# Altium integrated library Linear Technology Power Management Battery Management.IntLib: 626 symbols (part 48 of 56)
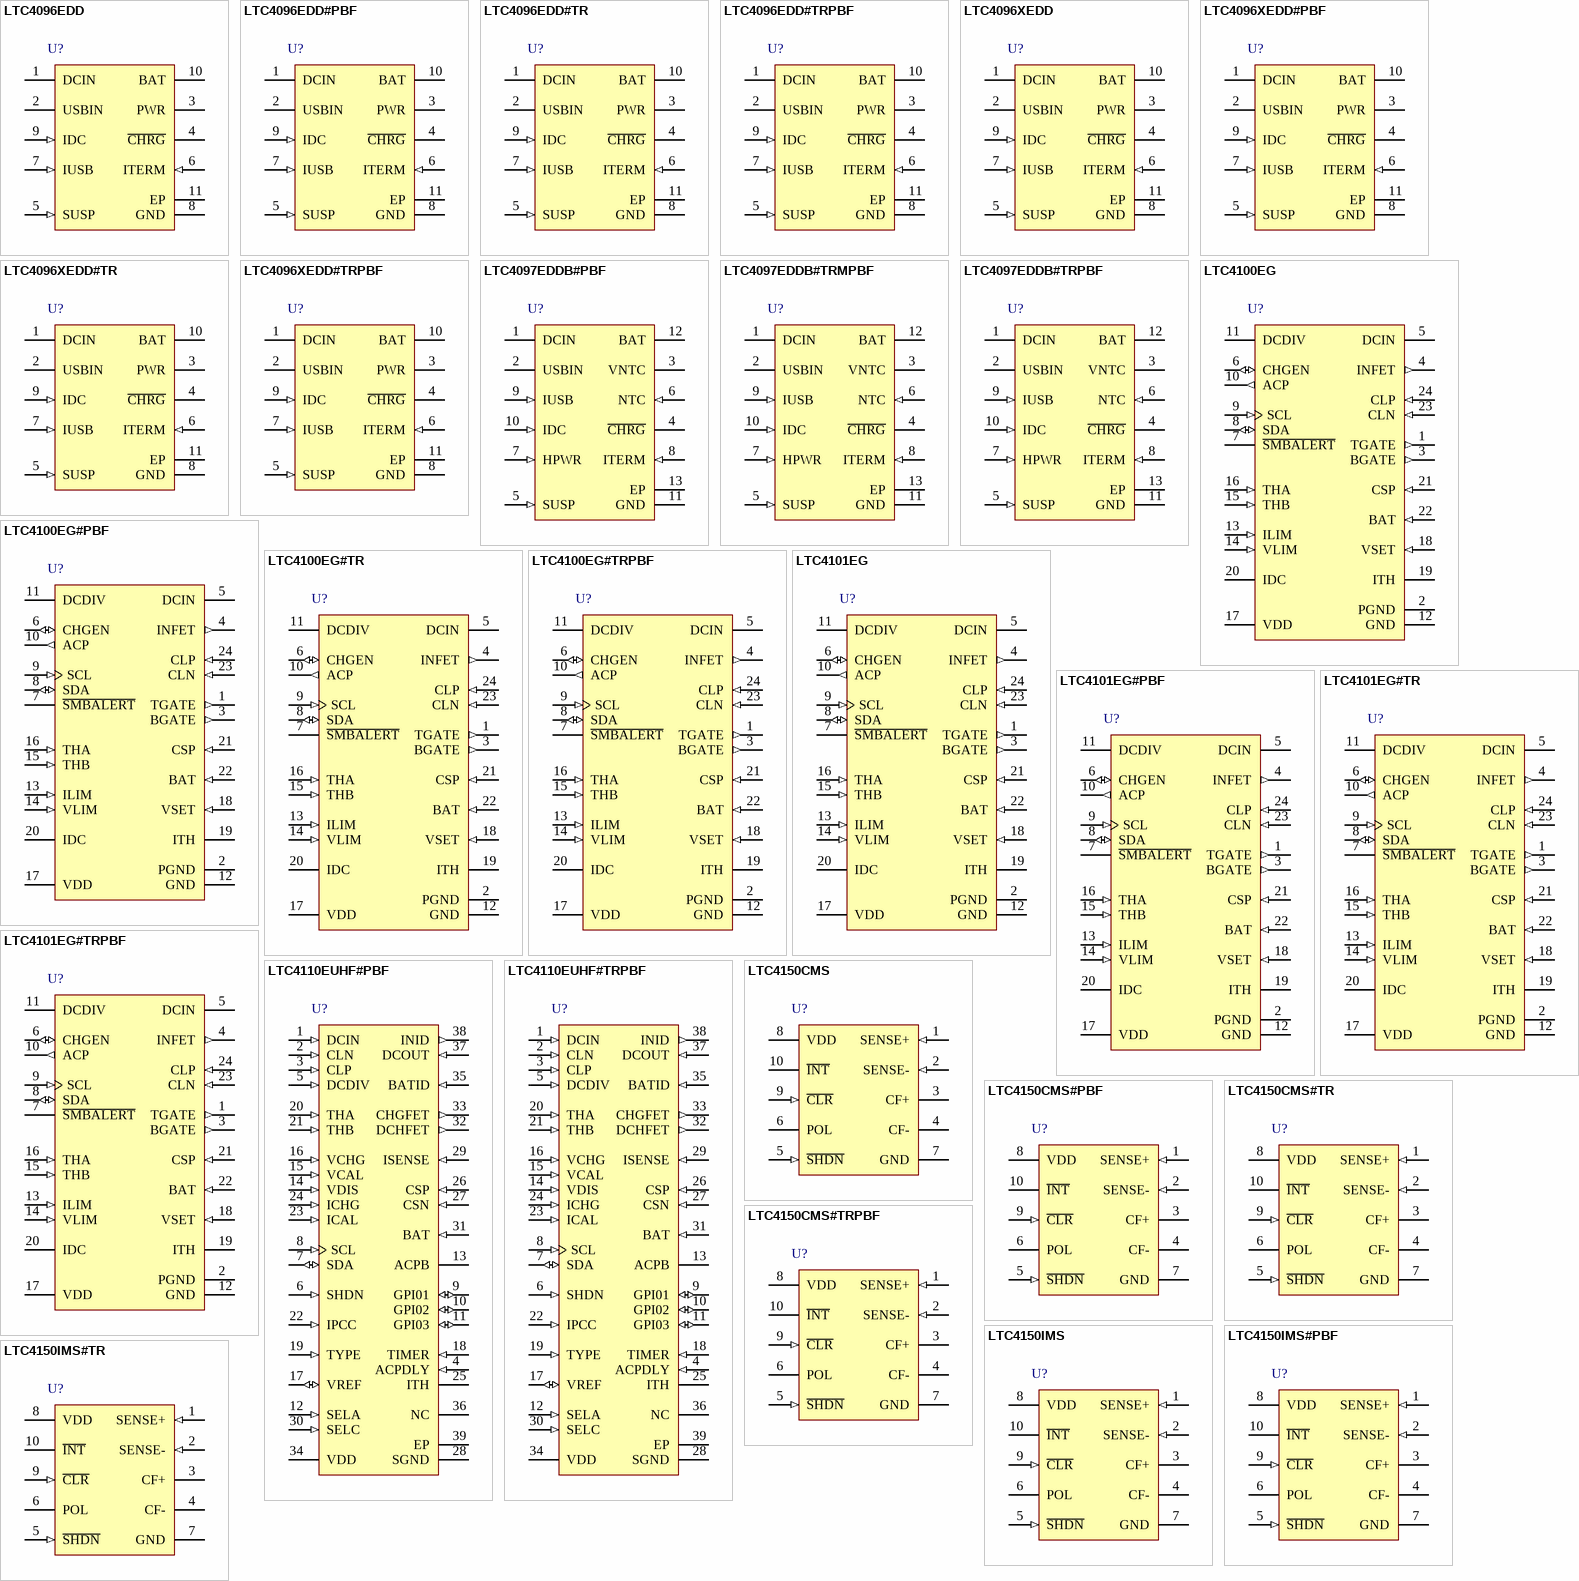
[diagram p69: symbols LTC4096EDD to LTC4150IMS#TR]

## LTC4100EG
designator U?
Smart Battery Charger Controller, 6 to 28 V Vin, 24-pin SOP (G-24), -40 to 85 degC; Manufacturer: Linear Technology; PartNumber: LTC4100EG; Battery Chemistry: Li-Ion, Li-Polymer, NiCd, NiMH; Charge Termination: On-board timer, Microcontroller; Float Voltage: Adj; Max Charge Current(A): 4; Number of Cells: 2 to 6 (Li); Type of Charger: Switching, SMBus; Vin Max(V): 28; Vin Min(V): 6; DatasheetVersion: Rev. B; PackageVersion: Jun-10; PackageReference: G-24; PackageDescription: 24-Pin Plastic SSOP, Body 8.2 x 5.3 mm, Pitch 0.65 mm; Supplier 1: Digi-Key; Supplier Part Number 1: LTC4100EG-ND; Supplier 2: Newark; Supplier Part Number 2: 58M0959; RoHS: FALSE; Mounting Technology: Surface Mount; ComponentLink1Description: Manufacturer URL; ComponentLink1URL: http://www.linear.com/; ComponentLink2Description: Datasheet; ComponentLink2URL: http://cds.linear.com/docs/en/datasheet/4100fb.pdf; ComponentLink3Description: Package Specification; ComponentLink3URL: http://cds.linear.com/docs/en/packaging/SSOP_24_05-08-1640.pdf
footprint LT-G-24_N (SOP, 24-Leads, Body 8.5x5.6mm, Pitch 0.65mm, IPC Medium Density)
footprint LT-G-24_L (SOP, 24-Leads, Body 8.5x5.6mm, Pitch 0.65mm, IPC High Density)
footprint LT-G-24_M (SOP, 24-Leads, Body 8.5x5.6mm, Pitch 0.65mm, IPC Low Density)
pins: 1 TGATE (out) "Drives the Top External P-MOSFET of the Battery Charger Buck Converter.", 2 PGND (power) "High Current Ground Return for BGATE Driver", 3 BGATE (out) "Drives the Bottom External N-MOSFET of the Battery Charger Buck Converter.", 4 INFET (out) "Drives the Gate of the External Input P-MOSFET.", 5 DCIN (power) "External DC Power Source Input. Bypass to ground with a 0.1uF capacitor.", 6 CHGEN (io) "Digital Bidirectional Pin to Enable Charger Function. This pin is connected as a wired AND bus.", 7 ~{SMBALERT} (oc) "Active Low Interrupt Output to Host (referred to as the S\M\B\A\L\E\R\T\ signal in the SMBus Revision 1.1 specification). Signals host that there has been a change of status in the charger registers and that the host should (See Datasheet)", 8 SDA (io) "SMBus Data Signal from Main (host-controlled)SMBus. External pull-up resistor is required.", 9 SCL (in) "SMBus Clock Signal from Main (host-controlled) SMBus. External pull-up resistor is required.", 10 ACP (out) "This Output Indicates the Value of the DCDIV Comparator. It can be used to indicate whether AC is present or not.", 11 DCDIV (power) "Supply Divider Input. This is a high impedance comparator input with a 1.2V threshold (rising edge) and hysteresis.", 12 GND (power) "Ground for Digital and Analog Circuitry.", 13 ILIM (in) "An external resistor is connected between this pin and GND. The value of the external resistor programs the range and resolution of the programmed charger current. This is a digital, not an analog, function", 14 VLIM (in) "An external resistor is connected between this pin and GND. The value of the external resistor programs the range and resolution of the charging voltage. This is a digital, not an analog, function.", 15 THB (in) "SafetySignal Force/Sense Pin to Smart Battery. See description of operation for more detail. The maximum allowed combined capacitance on THA, THB and SafetySignal is 1nF (see Figure 4). A series resistor 54.9k needs to be (See Datasheet)", 16 THA (in) "SafetySignal Force/Sense Pin to Smart Battery. See description of operation for more detail. The maximum allowed combined capacitance on THA, THB and SafetySignal is 1nF (see Figure 4). A series resistor 1130ohm needs to be (See Datasheet)", 17 VDD (power) "Power Supply Input for the LTC4101 Digital Circuitry. Bypass this pin with 0.1uF. Typically between 3.3V and 5VDC.", 18 VSET (in) "Tap Point of the Programmable Resistor Divider, which Provides Battery Voltage Feedback to the Charger.", 19 ITH "Control Signal of the Inner Loop of the Current Mode PWM. Higher ITH corresponds to higher charging current in normal operation. A 0.0015uF capacitor to GND filters out PWM ripple. Typical full-scale output current is 40uA. (See Datasheet)", 20 IDC "Bypass to GND with a 0.068uF Capacitor", 21 CSP (in) "Current Amplifier CA1 Input. This pin and the BAT pin measure the voltage across the sense resistor, RSENSE, to provide the instantaneous current signals required for both peak and average current mode operation.", 22 BAT (in) "Battery Sense Input and the Negative Reference for the Current Sense Resistor. A bypass capacitor of at least 10uF is required.", 23 CLN (in) "Negative Input to the Input Current Limiting Circuit Block. If no current limit function is desired, connect this pin to CLP. The threshold is set at 100mV below the voltage at the CLP pin. When used to limit supply current, (See Datasheet)", 24 CLP (in) "Positive Input to the Input Current Limiting Circuit Block. This pin also serves as a power supply for the IC"

## LTC4100EG#PBF
designator U?
Smart Battery Charger Controller, 6 to 28 V Vin, 24-pin SOP (G-24), -40 to 85 degC, Pb-Free; Manufacturer: Linear Technology; PartNumber: LTC4100EG#PBF; Battery Chemistry: Li-Ion, Li-Polymer, NiCd, NiMH; Charge Termination: On-board timer, Microcontroller; Float Voltage: Adj; Max Charge Current(A): 4; Number of Cells: 2 to 6 (Li); Type of Charger: Switching, SMBus; Vin Max(V): 28; Vin Min(V): 6; DatasheetVersion: Rev. B; PackageVersion: Jun-10; PackageReference: G-24; PackageDescription: 24-Pin Plastic SSOP, Body 8.2 x 5.3 mm, Pitch 0.65 mm; Supplier 1: Digi-Key; Supplier Part Number 1: LTC4100EG#PBF-ND; Supplier 2: Farnell; Supplier Part Number 2: 1273987; Supplier 3: Newark; Supplier Part Number 3: 58M0960; RoHS: TRUE; Mounting Technology: Surface Mount; ComponentLink1Description: Manufacturer URL; ComponentLink1URL: http://www.linear.com/; ComponentLink2Description: Datasheet; ComponentLink2URL: http://cds.linear.com/docs/en/datasheet/4100fb.pdf; ComponentLink3Description: Package Specification; ComponentLink3URL: http://cds.linear.com/docs/en/packaging/SSOP_24_05-08-1640.pdf
footprint LT-G-24_N (SOP, 24-Leads, Body 8.5x5.6mm, Pitch 0.65mm, IPC Medium Density)
footprint LT-G-24_L (SOP, 24-Leads, Body 8.5x5.6mm, Pitch 0.65mm, IPC High Density)
footprint LT-G-24_M (SOP, 24-Leads, Body 8.5x5.6mm, Pitch 0.65mm, IPC Low Density)
pins: 1 TGATE (out) "Drives the Top External P-MOSFET of the Battery Charger Buck Converter.", 2 PGND (power) "High Current Ground Return for BGATE Driver", 3 BGATE (out) "Drives the Bottom External N-MOSFET of the Battery Charger Buck Converter.", 4 INFET (out) "Drives the Gate of the External Input P-MOSFET.", 5 DCIN (power) "External DC Power Source Input. Bypass to ground with a 0.1uF capacitor.", 6 CHGEN (io) "Digital Bidirectional Pin to Enable Charger Function. This pin is connected as a wired AND bus.", 7 ~{SMBALERT} (oc) "Active Low Interrupt Output to Host (referred to as the S\M\B\A\L\E\R\T\ signal in the SMBus Revision 1.1 specification). Signals host that there has been a change of status in the charger registers and that the host should (See Datasheet)", 8 SDA (io) "SMBus Data Signal from Main (host-controlled)SMBus. External pull-up resistor is required.", 9 SCL (in) "SMBus Clock Signal from Main (host-controlled) SMBus. External pull-up resistor is required.", 10 ACP (out) "This Output Indicates the Value of the DCDIV Comparator. It can be used to indicate whether AC is present or not.", 11 DCDIV (power) "Supply Divider Input. This is a high impedance comparator input with a 1.2V threshold (rising edge) and hysteresis.", 12 GND (power) "Ground for Digital and Analog Circuitry.", 13 ILIM (in) "An external resistor is connected between this pin and GND. The value of the external resistor programs the range and resolution of the programmed charger current. This is a digital, not an analog, function", 14 VLIM (in) "An external resistor is connected between this pin and GND. The value of the external resistor programs the range and resolution of the charging voltage. This is a digital, not an analog, function.", 15 THB (in) "SafetySignal Force/Sense Pin to Smart Battery. See description of operation for more detail. The maximum allowed combined capacitance on THA, THB and SafetySignal is 1nF (see Figure 4). A series resistor 54.9k needs to be (See Datasheet)", 16 THA (in) "SafetySignal Force/Sense Pin to Smart Battery. See description of operation for more detail. The maximum allowed combined capacitance on THA, THB and SafetySignal is 1nF (see Figure 4). A series resistor 1130ohm needs to be (See Datasheet)", 17 VDD (power) "Power Supply Input for the LTC4101 Digital Circuitry. Bypass this pin with 0.1uF. Typically between 3.3V and 5VDC.", 18 VSET (in) "Tap Point of the Programmable Resistor Divider, which Provides Battery Voltage Feedback to the Charger.", 19 ITH "Control Signal of the Inner Loop of the Current Mode PWM. Higher ITH corresponds to higher charging current in normal operation. A 0.0015uF capacitor to GND filters out PWM ripple. Typical full-scale output current is 40uA. (See Datasheet)", 20 IDC "Bypass to GND with a 0.068uF Capacitor", 21 CSP (in) "Current Amplifier CA1 Input. This pin and the BAT pin measure the voltage across the sense resistor, RSENSE, to provide the instantaneous current signals required for both peak and average current mode operation.", 22 BAT (in) "Battery Sense Input and the Negative Reference for the Current Sense Resistor. A bypass capacitor of at least 10uF is required.", 23 CLN (in) "Negative Input to the Input Current Limiting Circuit Block. If no current limit function is desired, connect this pin to CLP. The threshold is set at 100mV below the voltage at the CLP pin. When used to limit supply current, (See Datasheet)", 24 CLP (in) "Positive Input to the Input Current Limiting Circuit Block. This pin also serves as a power supply for the IC"

## LTC4100EG#TR
designator U?
Smart Battery Charger Controller, 6 to 28 V Vin, 24-pin SOP (G-24), -40 to 85 degC, Tape and Reel; Manufacturer: Linear Technology; PartNumber: LTC4100EG#TR; Battery Chemistry: Li-Ion, Li-Polymer, NiCd, NiMH; Charge Termination: On-board timer, Microcontroller; Float Voltage: Adj; Max Charge Current(A): 4; Number of Cells: 2 to 6 (Li); Type of Charger: Switching, SMBus; Vin Max(V): 28; Vin Min(V): 6; DatasheetVersion: Rev. B; PackageVersion: Jun-10; PackageReference: G-24; PackageDescription: 24-Pin Plastic SSOP, Body 8.2 x 5.3 mm, Pitch 0.65 mm; Supplier 1: Digi-Key; Supplier Part Number 1: LTC4100EG#TR-ND; Supplier 2: Newark; Supplier Part Number 2: 58M0961; Packing: Tape and Reel; RoHS: FALSE; Mounting Technology: Surface Mount; ComponentLink1Description: Manufacturer URL; ComponentLink1URL: http://www.linear.com/; ComponentLink2Description: Datasheet; ComponentLink2URL: http://cds.linear.com/docs/en/datasheet/4100fb.pdf; ComponentLink3Description: Package Specification; ComponentLink3URL: http://cds.linear.com/docs/en/packaging/SSOP_24_05-08-1640.pdf
footprint LT-G-24_N (SOP, 24-Leads, Body 8.5x5.6mm, Pitch 0.65mm, IPC Medium Density)
footprint LT-G-24_L (SOP, 24-Leads, Body 8.5x5.6mm, Pitch 0.65mm, IPC High Density)
footprint LT-G-24_M (SOP, 24-Leads, Body 8.5x5.6mm, Pitch 0.65mm, IPC Low Density)
pins: 1 TGATE (out) "Drives the Top External P-MOSFET of the Battery Charger Buck Converter.", 2 PGND (power) "High Current Ground Return for BGATE Driver", 3 BGATE (out) "Drives the Bottom External N-MOSFET of the Battery Charger Buck Converter.", 4 INFET (out) "Drives the Gate of the External Input P-MOSFET.", 5 DCIN (power) "External DC Power Source Input. Bypass to ground with a 0.1uF capacitor.", 6 CHGEN (io) "Digital Bidirectional Pin to Enable Charger Function. This pin is connected as a wired AND bus.", 7 ~{SMBALERT} (oc) "Active Low Interrupt Output to Host (referred to as the S\M\B\A\L\E\R\T\ signal in the SMBus Revision 1.1 specification). Signals host that there has been a change of status in the charger registers and that the host should (See Datasheet)", 8 SDA (io) "SMBus Data Signal from Main (host-controlled)SMBus. External pull-up resistor is required.", 9 SCL (in) "SMBus Clock Signal from Main (host-controlled) SMBus. External pull-up resistor is required.", 10 ACP (out) "This Output Indicates the Value of the DCDIV Comparator. It can be used to indicate whether AC is present or not.", 11 DCDIV (power) "Supply Divider Input. This is a high impedance comparator input with a 1.2V threshold (rising edge) and hysteresis.", 12 GND (power) "Ground for Digital and Analog Circuitry.", 13 ILIM (in) "An external resistor is connected between this pin and GND. The value of the external resistor programs the range and resolution of the programmed charger current. This is a digital, not an analog, function", 14 VLIM (in) "An external resistor is connected between this pin and GND. The value of the external resistor programs the range and resolution of the charging voltage. This is a digital, not an analog, function.", 15 THB (in) "SafetySignal Force/Sense Pin to Smart Battery. See description of operation for more detail. The maximum allowed combined capacitance on THA, THB and SafetySignal is 1nF (see Figure 4). A series resistor 54.9k needs to be (See Datasheet)", 16 THA (in) "SafetySignal Force/Sense Pin to Smart Battery. See description of operation for more detail. The maximum allowed combined capacitance on THA, THB and SafetySignal is 1nF (see Figure 4). A series resistor 1130ohm needs to be (See Datasheet)", 17 VDD (power) "Power Supply Input for the LTC4101 Digital Circuitry. Bypass this pin with 0.1uF. Typically between 3.3V and 5VDC.", 18 VSET (in) "Tap Point of the Programmable Resistor Divider, which Provides Battery Voltage Feedback to the Charger.", 19 ITH "Control Signal of the Inner Loop of the Current Mode PWM. Higher ITH corresponds to higher charging current in normal operation. A 0.0015uF capacitor to GND filters out PWM ripple. Typical full-scale output current is 40uA. (See Datasheet)", 20 IDC "Bypass to GND with a 0.068uF Capacitor", 21 CSP (in) "Current Amplifier CA1 Input. This pin and the BAT pin measure the voltage across the sense resistor, RSENSE, to provide the instantaneous current signals required for both peak and average current mode operation.", 22 BAT (in) "Battery Sense Input and the Negative Reference for the Current Sense Resistor. A bypass capacitor of at least 10uF is required.", 23 CLN (in) "Negative Input to the Input Current Limiting Circuit Block. If no current limit function is desired, connect this pin to CLP. The threshold is set at 100mV below the voltage at the CLP pin. When used to limit supply current, (See Datasheet)", 24 CLP (in) "Positive Input to the Input Current Limiting Circuit Block. This pin also serves as a power supply for the IC"

## LTC4100EG#TRPBF
designator U?
Smart Battery Charger Controller, 6 to 28 V Vin, 24-pin SOP (G-24), -40 to 85 degC, Pb-Free, Tape and Reel; Manufacturer: Linear Technology; PartNumber: LTC4100EG#TRPBF; Battery Chemistry: Li-Ion, Li-Polymer, NiCd, NiMH; Charge Termination: On-board timer, Microcontroller; Float Voltage: Adj; Max Charge Current(A): 4; Number of Cells: 2 to 6 (Li); Type of Charger: Switching, SMBus; Vin Max(V): 28; Vin Min(V): 6; DatasheetVersion: Rev. B; PackageVersion: Jun-10; PackageReference: G-24; PackageDescription: 24-Pin Plastic SSOP, Body 8.2 x 5.3 mm, Pitch 0.65 mm; Supplier 1: Digi-Key; Supplier Part Number 1: LTC4100EG#TRPBFTR-ND; Supplier 2: Digi-Key; Supplier Part Number 2: LTC4100EG#TRPBFCT-ND; Supplier 3: Digi-Key; Supplier Part Number 3: LTC4100EG#TRPBFDKR-ND; Supplier 4: Newark; Supplier Part Number 4: 58M0962; Packing: Tape and Reel; RoHS: TRUE; Mounting Technology: Surface Mount; ComponentLink1Description: Manufacturer URL; ComponentLink1URL: http://www.linear.com/; ComponentLink2Description: Datasheet; ComponentLink2URL: http://cds.linear.com/docs/en/datasheet/4100fb.pdf; ComponentLink3Description: Package Specification; ComponentLink3URL: http://cds.linear.com/docs/en/packaging/SSOP_24_05-08-1640.pdf
footprint LT-G-24_N (SOP, 24-Leads, Body 8.5x5.6mm, Pitch 0.65mm, IPC Medium Density)
footprint LT-G-24_L (SOP, 24-Leads, Body 8.5x5.6mm, Pitch 0.65mm, IPC High Density)
footprint LT-G-24_M (SOP, 24-Leads, Body 8.5x5.6mm, Pitch 0.65mm, IPC Low Density)
pins: 1 TGATE (out) "Drives the Top External P-MOSFET of the Battery Charger Buck Converter.", 2 PGND (power) "High Current Ground Return for BGATE Driver", 3 BGATE (out) "Drives the Bottom External N-MOSFET of the Battery Charger Buck Converter.", 4 INFET (out) "Drives the Gate of the External Input P-MOSFET.", 5 DCIN (power) "External DC Power Source Input. Bypass to ground with a 0.1uF capacitor.", 6 CHGEN (io) "Digital Bidirectional Pin to Enable Charger Function. This pin is connected as a wired AND bus.", 7 ~{SMBALERT} (oc) "Active Low Interrupt Output to Host (referred to as the S\M\B\A\L\E\R\T\ signal in the SMBus Revision 1.1 specification). Signals host that there has been a change of status in the charger registers and that the host should (See Datasheet)", 8 SDA (io) "SMBus Data Signal from Main (host-controlled)SMBus. External pull-up resistor is required.", 9 SCL (in) "SMBus Clock Signal from Main (host-controlled) SMBus. External pull-up resistor is required.", 10 ACP (out) "This Output Indicates the Value of the DCDIV Comparator. It can be used to indicate whether AC is present or not.", 11 DCDIV (power) "Supply Divider Input. This is a high impedance comparator input with a 1.2V threshold (rising edge) and hysteresis.", 12 GND (power) "Ground for Digital and Analog Circuitry.", 13 ILIM (in) "An external resistor is connected between this pin and GND. The value of the external resistor programs the range and resolution of the programmed charger current. This is a digital, not an analog, function", 14 VLIM (in) "An external resistor is connected between this pin and GND. The value of the external resistor programs the range and resolution of the charging voltage. This is a digital, not an analog, function.", 15 THB (in) "SafetySignal Force/Sense Pin to Smart Battery. See description of operation for more detail. The maximum allowed combined capacitance on THA, THB and SafetySignal is 1nF (see Figure 4). A series resistor 54.9k needs to be (See Datasheet)", 16 THA (in) "SafetySignal Force/Sense Pin to Smart Battery. See description of operation for more detail. The maximum allowed combined capacitance on THA, THB and SafetySignal is 1nF (see Figure 4). A series resistor 1130ohm needs to be (See Datasheet)", 17 VDD (power) "Power Supply Input for the LTC4101 Digital Circuitry. Bypass this pin with 0.1uF. Typically between 3.3V and 5VDC.", 18 VSET (in) "Tap Point of the Programmable Resistor Divider, which Provides Battery Voltage Feedback to the Charger.", 19 ITH "Control Signal of the Inner Loop of the Current Mode PWM. Higher ITH corresponds to higher charging current in normal operation. A 0.0015uF capacitor to GND filters out PWM ripple. Typical full-scale output current is 40uA. (See Datasheet)", 20 IDC "Bypass to GND with a 0.068uF Capacitor", 21 CSP (in) "Current Amplifier CA1 Input. This pin and the BAT pin measure the voltage across the sense resistor, RSENSE, to provide the instantaneous current signals required for both peak and average current mode operation.", 22 BAT (in) "Battery Sense Input and the Negative Reference for the Current Sense Resistor. A bypass capacitor of at least 10uF is required.", 23 CLN (in) "Negative Input to the Input Current Limiting Circuit Block. If no current limit function is desired, connect this pin to CLP. The threshold is set at 100mV below the voltage at the CLP pin. When used to limit supply current, (See Datasheet)", 24 CLP (in) "Positive Input to the Input Current Limiting Circuit Block. This pin also serves as a power supply for the IC"

## LTC4101EG
designator U?
Smart Battery Charger Controller, 6 to 28 V Vin, 24-pin SOP (G-24), -40 to 85 degC; Manufacturer: Linear Technology; PartNumber: LTC4101EG; Battery Chemistry: Li-Ion, Li-Polymer, NiCd, NiMH; Charge Termination: On-board timer, Microcontroller; Float Voltage: Adj; Max Charge Current(A): 4; Number of Cells: 1 (Li); Type of Charger: Switching, SMBus; Vin Max(V): 28; Vin Min(V): 6; DatasheetVersion: Rev. A; PackageVersion: Jun-10; PackageReference: G-24; PackageDescription: 24-Pin Plastic SSOP, Body 8.2 x 5.3 mm, Pitch 0.65 mm; RoHS: FALSE; Mounting Technology: Surface Mount; ComponentLink1Description: Manufacturer URL; ComponentLink1URL: http://www.linear.com/; ComponentLink2Description: Datasheet; ComponentLink2URL: http://cds.linear.com/docs/en/datasheet/4101fa.pdf; ComponentLink3Description: Package Specification; ComponentLink3URL: http://cds.linear.com/docs/en/packaging/SSOP_24_05-08-1640.pdf
footprint LT-G-24_N (SOP, 24-Leads, Body 8.5x5.6mm, Pitch 0.65mm, IPC Medium Density)
footprint LT-G-24_L (SOP, 24-Leads, Body 8.5x5.6mm, Pitch 0.65mm, IPC High Density)
footprint LT-G-24_M (SOP, 24-Leads, Body 8.5x5.6mm, Pitch 0.65mm, IPC Low Density)
pins: 1 TGATE (out) "Drives the Top External P-MOSFET of the Battery Charger Buck Converter.", 2 PGND (power) "High Current Ground Return for BGATE Driver", 3 BGATE (out) "Drives the Bottom External N-MOSFET of the Battery Charger Buck Converter.", 4 INFET (out) "Drives the Gate of the External Input P-MOSFET.", 5 DCIN (power) "External DC Power Source Input. Bypass to ground with a 0.1uF capacitor.", 6 CHGEN (io) "Digital Bidirectional Pin to Enable Charger Function. This pin is connected as a wired AND bus.", 7 ~{SMBALERT} (oc) "Active Low Interrupt Output to Host (referred to as the S\M\B\A\L\E\R\T\ signal in the SMBus Revision 1.1 specification). Signals host that there has been a change of status in the charger registers and that the host should (See Datasheet)", 8 SDA (io) "SMBus Data Signal from Main (host-controlled)SMBus. External pull-up resistor is required.", 9 SCL (in) "SMBus Clock Signal from Main (host-controlled) SMBus. External pull-up resistor is required.", 10 ACP (out) "This Output Indicates the Value of the DCDIV Comparator. It can be used to indicate whether AC is present or not.", 11 DCDIV (power) "Supply Divider Input. This is a high impedance comparator input with a 1.2V threshold (rising edge) and hysteresis.", 12 GND (power) "Ground for Digital and Analog Circuitry.", 13 ILIM (in) "An external resistor is connected between this pin and GND. The value of the external resistor programs the range and resolution of the programmed charger current. This is a digital, not an analog, function", 14 VLIM (in) "An external resistor is connected between this pin and GND. The value of the external resistor programs the range and resolution of the charging voltage. This is a digital, not an analog, function.", 15 THB (in) "SafetySignal Force/Sense Pin to Smart Battery. See description of operation for more detail. The maximum allowed combined capacitance on THA, THB and SafetySignal is 1nF (see Figure 4). A series resistor 54.9k needs to be (See Datasheet)", 16 THA (in) "SafetySignal Force/Sense Pin to Smart Battery. See description of operation for more detail. The maximum allowed combined capacitance on THA, THB and SafetySignal is 1nF (see Figure 4). A series resistor 1130ohm needs to be (See Datasheet)", 17 VDD (power) "Power Supply Input for the LTC4101 Digital Circuitry. Bypass this pin with 0.1uF. Typically between 3.3V and 5VDC.", 18 VSET (in) "Tap Point of the Programmable Resistor Divider, which Provides Battery Voltage Feedback to the Charger.", 19 ITH "Control Signal of the Inner Loop of the Current Mode PWM. Higher ITH corresponds to higher charging current in normal operation. A 0.0015uF capacitor to GND filters out PWM ripple. Typical full-scale output current is 40uA. (See Datasheet)", 20 IDC "Bypass to GND with a 0.068uF Capacitor", 21 CSP (in) "Current Amplifier CA1 Input. This pin and the BAT pin measure the voltage across the sense resistor, RSENSE, to provide the instantaneous current signals required for both peak and average current mode operation.", 22 BAT (in) "Battery Sense Input and the Negative Reference for the Current Sense Resistor. A bypass capacitor of at least 10uF is required.", 23 CLN (in) "Negative Input to the Input Current Limiting Circuit Block. If no current limit function is desired, connect this pin to CLP. The threshold is set at 100mV below the voltage at the CLP pin. When used to limit supply current, (See Datasheet)", 24 CLP (in) "Positive Input to the Input Current Limiting Circuit Block. This pin also serves as a power supply for the IC"

## LTC4101EG#PBF
designator U?
Smart Battery Charger Controller, 6 to 28 V Vin, 24-pin SOP (G-24), -40 to 85 degC, Pb-Free; Manufacturer: Linear Technology; PartNumber: LTC4101EG#PBF; Battery Chemistry: Li-Ion, Li-Polymer, NiCd, NiMH; Charge Termination: On-board timer, Microcontroller; Float Voltage: Adj; Max Charge Current(A): 4; Number of Cells: 1 (Li); Type of Charger: Switching, SMBus; Vin Max(V): 28; Vin Min(V): 6; DatasheetVersion: Rev. A; PackageVersion: Jun-10; PackageReference: G-24; PackageDescription: 24-Pin Plastic SSOP, Body 8.2 x 5.3 mm, Pitch 0.65 mm; Supplier 1: Digi-Key; Supplier Part Number 1: LTC4101EG#PBF-ND; Supplier 2: Farnell; Supplier Part Number 2: 1648050; Supplier 3: Newark; Supplier Part Number 3: 58M0964; RoHS: TRUE; Mounting Technology: Surface Mount; ComponentLink1Description: Manufacturer URL; ComponentLink1URL: http://www.linear.com/; ComponentLink2Description: Datasheet; ComponentLink2URL: http://cds.linear.com/docs/en/datasheet/4101fa.pdf; ComponentLink3Description: Package Specification; ComponentLink3URL: http://cds.linear.com/docs/en/packaging/SSOP_24_05-08-1640.pdf
footprint LT-G-24_N (SOP, 24-Leads, Body 8.5x5.6mm, Pitch 0.65mm, IPC Medium Density)
footprint LT-G-24_L (SOP, 24-Leads, Body 8.5x5.6mm, Pitch 0.65mm, IPC High Density)
footprint LT-G-24_M (SOP, 24-Leads, Body 8.5x5.6mm, Pitch 0.65mm, IPC Low Density)
pins: 1 TGATE (out) "Drives the Top External P-MOSFET of the Battery Charger Buck Converter.", 2 PGND (power) "High Current Ground Return for BGATE Driver", 3 BGATE (out) "Drives the Bottom External N-MOSFET of the Battery Charger Buck Converter.", 4 INFET (out) "Drives the Gate of the External Input P-MOSFET.", 5 DCIN (power) "External DC Power Source Input. Bypass to ground with a 0.1uF capacitor.", 6 CHGEN (io) "Digital Bidirectional Pin to Enable Charger Function. This pin is connected as a wired AND bus.", 7 ~{SMBALERT} (oc) "Active Low Interrupt Output to Host (referred to as the S\M\B\A\L\E\R\T\ signal in the SMBus Revision 1.1 specification). Signals host that there has been a change of status in the charger registers and that the host should (See Datasheet)", 8 SDA (io) "SMBus Data Signal from Main (host-controlled)SMBus. External pull-up resistor is required.", 9 SCL (in) "SMBus Clock Signal from Main (host-controlled) SMBus. External pull-up resistor is required.", 10 ACP (out) "This Output Indicates the Value of the DCDIV Comparator. It can be used to indicate whether AC is present or not.", 11 DCDIV (power) "Supply Divider Input. This is a high impedance comparator input with a 1.2V threshold (rising edge) and hysteresis.", 12 GND (power) "Ground for Digital and Analog Circuitry.", 13 ILIM (in) "An external resistor is connected between this pin and GND. The value of the external resistor programs the range and resolution of the programmed charger current. This is a digital, not an analog, function", 14 VLIM (in) "An external resistor is connected between this pin and GND. The value of the external resistor programs the range and resolution of the charging voltage. This is a digital, not an analog, function.", 15 THB (in) "SafetySignal Force/Sense Pin to Smart Battery. See description of operation for more detail. The maximum allowed combined capacitance on THA, THB and SafetySignal is 1nF (see Figure 4). A series resistor 54.9k needs to be (See Datasheet)", 16 THA (in) "SafetySignal Force/Sense Pin to Smart Battery. See description of operation for more detail. The maximum allowed combined capacitance on THA, THB and SafetySignal is 1nF (see Figure 4). A series resistor 1130ohm needs to be (See Datasheet)", 17 VDD (power) "Power Supply Input for the LTC4101 Digital Circuitry. Bypass this pin with 0.1uF. Typically between 3.3V and 5VDC.", 18 VSET (in) "Tap Point of the Programmable Resistor Divider, which Provides Battery Voltage Feedback to the Charger.", 19 ITH "Control Signal of the Inner Loop of the Current Mode PWM. Higher ITH corresponds to higher charging current in normal operation. A 0.0015uF capacitor to GND filters out PWM ripple. Typical full-scale output current is 40uA. (See Datasheet)", 20 IDC "Bypass to GND with a 0.068uF Capacitor", 21 CSP (in) "Current Amplifier CA1 Input. This pin and the BAT pin measure the voltage across the sense resistor, RSENSE, to provide the instantaneous current signals required for both peak and average current mode operation.", 22 BAT (in) "Battery Sense Input and the Negative Reference for the Current Sense Resistor. A bypass capacitor of at least 10uF is required.", 23 CLN (in) "Negative Input to the Input Current Limiting Circuit Block. If no current limit function is desired, connect this pin to CLP. The threshold is set at 100mV below the voltage at the CLP pin. When used to limit supply current, (See Datasheet)", 24 CLP (in) "Positive Input to the Input Current Limiting Circuit Block. This pin also serves as a power supply for the IC"

## LTC4101EG#TR
designator U?
Smart Battery Charger Controller, 6 to 28 V Vin, 24-pin SOP (G-24), -40 to 85 degC, Tape and Reel; Manufacturer: Linear Technology; PartNumber: LTC4101EG#TR; Battery Chemistry: Li-Ion, Li-Polymer, NiCd, NiMH; Charge Termination: On-board timer, Microcontroller; Float Voltage: Adj; Max Charge Current(A): 4; Number of Cells: 1 (Li); Type of Charger: Switching, SMBus; Vin Max(V): 28; Vin Min(V): 6; DatasheetVersion: Rev. A; PackageVersion: Jun-10; PackageReference: G-24; PackageDescription: 24-Pin Plastic SSOP, Body 8.2 x 5.3 mm, Pitch 0.65 mm; Packing: Tape and Reel; RoHS: FALSE; Mounting Technology: Surface Mount; ComponentLink1Description: Manufacturer URL; ComponentLink1URL: http://www.linear.com/; ComponentLink2Description: Datasheet; ComponentLink2URL: http://cds.linear.com/docs/en/datasheet/4101fa.pdf; ComponentLink3Description: Package Specification; ComponentLink3URL: http://cds.linear.com/docs/en/packaging/SSOP_24_05-08-1640.pdf
footprint LT-G-24_N (SOP, 24-Leads, Body 8.5x5.6mm, Pitch 0.65mm, IPC Medium Density)
footprint LT-G-24_L (SOP, 24-Leads, Body 8.5x5.6mm, Pitch 0.65mm, IPC High Density)
footprint LT-G-24_M (SOP, 24-Leads, Body 8.5x5.6mm, Pitch 0.65mm, IPC Low Density)
pins: 1 TGATE (out) "Drives the Top External P-MOSFET of the Battery Charger Buck Converter.", 2 PGND (power) "High Current Ground Return for BGATE Driver", 3 BGATE (out) "Drives the Bottom External N-MOSFET of the Battery Charger Buck Converter.", 4 INFET (out) "Drives the Gate of the External Input P-MOSFET.", 5 DCIN (power) "External DC Power Source Input. Bypass to ground with a 0.1uF capacitor.", 6 CHGEN (io) "Digital Bidirectional Pin to Enable Charger Function. This pin is connected as a wired AND bus.", 7 ~{SMBALERT} (oc) "Active Low Interrupt Output to Host (referred to as the S\M\B\A\L\E\R\T\ signal in the SMBus Revision 1.1 specification). Signals host that there has been a change of status in the charger registers and that the host should (See Datasheet)", 8 SDA (io) "SMBus Data Signal from Main (host-controlled)SMBus. External pull-up resistor is required.", 9 SCL (in) "SMBus Clock Signal from Main (host-controlled) SMBus. External pull-up resistor is required.", 10 ACP (out) "This Output Indicates the Value of the DCDIV Comparator. It can be used to indicate whether AC is present or not.", 11 DCDIV (power) "Supply Divider Input. This is a high impedance comparator input with a 1.2V threshold (rising edge) and hysteresis.", 12 GND (power) "Ground for Digital and Analog Circuitry.", 13 ILIM (in) "An external resistor is connected between this pin and GND. The value of the external resistor programs the range and resolution of the programmed charger current. This is a digital, not an analog, function", 14 VLIM (in) "An external resistor is connected between this pin and GND. The value of the external resistor programs the range and resolution of the charging voltage. This is a digital, not an analog, function.", 15 THB (in) "SafetySignal Force/Sense Pin to Smart Battery. See description of operation for more detail. The maximum allowed combined capacitance on THA, THB and SafetySignal is 1nF (see Figure 4). A series resistor 54.9k needs to be (See Datasheet)", 16 THA (in) "SafetySignal Force/Sense Pin to Smart Battery. See description of operation for more detail. The maximum allowed combined capacitance on THA, THB and SafetySignal is 1nF (see Figure 4). A series resistor 1130ohm needs to be (See Datasheet)", 17 VDD (power) "Power Supply Input for the LTC4101 Digital Circuitry. Bypass this pin with 0.1uF. Typically between 3.3V and 5VDC.", 18 VSET (in) "Tap Point of the Programmable Resistor Divider, which Provides Battery Voltage Feedback to the Charger.", 19 ITH "Control Signal of the Inner Loop of the Current Mode PWM. Higher ITH corresponds to higher charging current in normal operation. A 0.0015uF capacitor to GND filters out PWM ripple. Typical full-scale output current is 40uA. (See Datasheet)", 20 IDC "Bypass to GND with a 0.068uF Capacitor", 21 CSP (in) "Current Amplifier CA1 Input. This pin and the BAT pin measure the voltage across the sense resistor, RSENSE, to provide the instantaneous current signals required for both peak and average current mode operation.", 22 BAT (in) "Battery Sense Input and the Negative Reference for the Current Sense Resistor. A bypass capacitor of at least 10uF is required.", 23 CLN (in) "Negative Input to the Input Current Limiting Circuit Block. If no current limit function is desired, connect this pin to CLP. The threshold is set at 100mV below the voltage at the CLP pin. When used to limit supply current, (See Datasheet)", 24 CLP (in) "Positive Input to the Input Current Limiting Circuit Block. This pin also serves as a power supply for the IC"

## LTC4101EG#TRPBF
designator U?
Smart Battery Charger Controller, 6 to 28 V Vin, 24-pin SOP (G-24), -40 to 85 degC, Pb-Free, Tape and Reel; Manufacturer: Linear Technology; PartNumber: LTC4101EG#TRPBF; Battery Chemistry: Li-Ion, Li-Polymer, NiCd, NiMH; Charge Termination: On-board timer, Microcontroller; Float Voltage: Adj; Max Charge Current(A): 4; Number of Cells: 1 (Li); Type of Charger: Switching, SMBus; Vin Max(V): 28; Vin Min(V): 6; DatasheetVersion: Rev. A; PackageVersion: Jun-10; PackageReference: G-24; PackageDescription: 24-Pin Plastic SSOP, Body 8.2 x 5.3 mm, Pitch 0.65 mm; Supplier 1: Digi-Key; Supplier Part Number 1: LTC4101EG#TRPBF-ND; Packing: Tape and Reel; RoHS: TRUE; Mounting Technology: Surface Mount; ComponentLink1Description: Manufacturer URL; ComponentLink1URL: http://www.linear.com/; ComponentLink2Description: Datasheet; ComponentLink2URL: http://cds.linear.com/docs/en/datasheet/4101fa.pdf; ComponentLink3Description: Package Specification; ComponentLink3URL: http://cds.linear.com/docs/en/packaging/SSOP_24_05-08-1640.pdf
footprint LT-G-24_N (SOP, 24-Leads, Body 8.5x5.6mm, Pitch 0.65mm, IPC Medium Density)
footprint LT-G-24_L (SOP, 24-Leads, Body 8.5x5.6mm, Pitch 0.65mm, IPC High Density)
footprint LT-G-24_M (SOP, 24-Leads, Body 8.5x5.6mm, Pitch 0.65mm, IPC Low Density)
pins: 1 TGATE (out) "Drives the Top External P-MOSFET of the Battery Charger Buck Converter.", 2 PGND (power) "High Current Ground Return for BGATE Driver", 3 BGATE (out) "Drives the Bottom External N-MOSFET of the Battery Charger Buck Converter.", 4 INFET (out) "Drives the Gate of the External Input P-MOSFET.", 5 DCIN (power) "External DC Power Source Input. Bypass to ground with a 0.1uF capacitor.", 6 CHGEN (io) "Digital Bidirectional Pin to Enable Charger Function. This pin is connected as a wired AND bus.", 7 ~{SMBALERT} (oc) "Active Low Interrupt Output to Host (referred to as the S\M\B\A\L\E\R\T\ signal in the SMBus Revision 1.1 specification). Signals host that there has been a change of status in the charger registers and that the host should (See Datasheet)", 8 SDA (io) "SMBus Data Signal from Main (host-controlled)SMBus. External pull-up resistor is required.", 9 SCL (in) "SMBus Clock Signal from Main (host-controlled) SMBus. External pull-up resistor is required.", 10 ACP (out) "This Output Indicates the Value of the DCDIV Comparator. It can be used to indicate whether AC is present or not.", 11 DCDIV (power) "Supply Divider Input. This is a high impedance comparator input with a 1.2V threshold (rising edge) and hysteresis.", 12 GND (power) "Ground for Digital and Analog Circuitry.", 13 ILIM (in) "An external resistor is connected between this pin and GND. The value of the external resistor programs the range and resolution of the programmed charger current. This is a digital, not an analog, function", 14 VLIM (in) "An external resistor is connected between this pin and GND. The value of the external resistor programs the range and resolution of the charging voltage. This is a digital, not an analog, function.", 15 THB (in) "SafetySignal Force/Sense Pin to Smart Battery. See description of operation for more detail. The maximum allowed combined capacitance on THA, THB and SafetySignal is 1nF (see Figure 4). A series resistor 54.9k needs to be (See Datasheet)", 16 THA (in) "SafetySignal Force/Sense Pin to Smart Battery. See description of operation for more detail. The maximum allowed combined capacitance on THA, THB and SafetySignal is 1nF (see Figure 4). A series resistor 1130ohm needs to be (See Datasheet)", 17 VDD (power) "Power Supply Input for the LTC4101 Digital Circuitry. Bypass this pin with 0.1uF. Typically between 3.3V and 5VDC.", 18 VSET (in) "Tap Point of the Programmable Resistor Divider, which Provides Battery Voltage Feedback to the Charger.", 19 ITH "Control Signal of the Inner Loop of the Current Mode PWM. Higher ITH corresponds to higher charging current in normal operation. A 0.0015uF capacitor to GND filters out PWM ripple. Typical full-scale output current is 40uA. (See Datasheet)", 20 IDC "Bypass to GND with a 0.068uF Capacitor", 21 CSP (in) "Current Amplifier CA1 Input. This pin and the BAT pin measure the voltage across the sense resistor, RSENSE, to provide the instantaneous current signals required for both peak and average current mode operation.", 22 BAT (in) "Battery Sense Input and the Negative Reference for the Current Sense Resistor. A bypass capacitor of at least 10uF is required.", 23 CLN (in) "Negative Input to the Input Current Limiting Circuit Block. If no current limit function is desired, connect this pin to CLP. The threshold is set at 100mV below the voltage at the CLP pin. When used to limit supply current, (See Datasheet)", 24 CLP (in) "Positive Input to the Input Current Limiting Circuit Block. This pin also serves as a power supply for the IC"

## LTC4110EUHF#PBF
designator U?
Battery Backup System Manager, 4.5 to 19 V Vin, 38-pin QFN (UHF-38), -40 to 85 degC, Pb-Free; Manufacturer: Linear Technology; PartNumber: LTC4110EUHF#PBF; Battery Chemistry: Li-Ion, Li-Polymer, Lead Acid, NiMH, NiCd; Charge Termination: C/10, Timer, Microcontroller; Float Voltage: Adj; Max Charge Current(A): 3; Number of Cells: 1-4 Li, up to 10 Ni, up to 6 SLA; Type of Charger: Switching; Vin Max(V): 19; Vin Min(V): 4.5; DatasheetVersion: Rev. B; PackageVersion: Rev. C, 06/2010; PackageReference: UHF-38; PackageDescription: 38-Pin Plastic QFN, Body 7 x 5 mm, Pitch 0.5 mm; Supplier 1: Digi-Key; Supplier Part Number 1: LTC4110EUHF#PBF-ND; Supplier 2: Farnell; Supplier Part Number 2: 1648052; Supplier 3: Newark; Supplier Part Number 3: 95M8574; RoHS: TRUE; Mounting Technology: Surface Mount; Code_JEDEC: MO-220; ComponentLink1Description: Manufacturer URL; ComponentLink1URL: http://www.linear.com/; ComponentLink2Description: Datasheet; ComponentLink2URL: http://cds.linear.com/docs/en/datasheet/4110fb.pdf; ComponentLink3Description: Package Specification; ComponentLink3URL: http://cds.linear.com/docs/en/packaging/QFN_38_05-08-1701.pdf
footprint LT-UHF-38_N (QFN, 38-Leads, Body 7.1x5.1mm, Pitch 0.5mm, Thermal Pad 3.15x5.15mm, IPC Medium Density)
footprint LT-UHF-38_L (QFN, 38-Leads, Body 7.1x5.1mm, Pitch 0.5mm, Thermal Pad 3.15x5.15mm, IPC High Density)
footprint LT-UHF-38_M (QFN, 38-Leads, Body 7.1x5.1mm, Pitch 0.5mm, Thermal Pad 3.15x5.15mm, IPC Low Density)
pins: 1 DCIN (in) "External DC Power Sense Input. Provides a control input and supply for the main supply ideal diode function.", 2 CLN (in) "Current Limit Sense Negative Input. See CLP pin.", 3 CLP (in) "Current Limit Sense Positive Input. This pin and the CLN pin form a differential input that senses voltage on an external resistor for reverse current entering the power source while in low loss calibration mode. Should the (See Datasheet)", 4 ACPDLY (in) "ACPb Delay Control Pin. A capacitor connected from ACPDLY to GND and a resistor from VREF to GND programs delay in the ACPb pin high-to-low transition. Open if minimum delay is desired.", 5 DCDIV (in) "AC Present Detection Input. Backup operation is invoked when the system power voltage, divided by an external resistor divider, falls below the threshold of this pin.", 6 SHDN (in) "Active High Shutdown/Reset Control Logic Input. Forces micropower shutdown mode if high when DCIN supply is removed. Forces all registers to reset if high when DCIN supply is present. Normally tied to ground. Internal pin (See Datasheet)", 7 SDA (io) "SMBus Bidirectional Data Signal. Connect to VDD when not in use.", 8 SCL (in) "SMBus Clock Signal Input From SMBus Host. Connect to VDD when not in use.", 9 GPI01 (io) "General Purpose I/O or Charge Status Pin. A logic-level I/O bit port that is configurable as a host-driven input/output port or as a battery charge status output (CHGb) with an open-drain N-MOSFET that is asserted low when (See Datasheet)", 10 GPI02 (io) "General Purpose I/O Pin. A logic-level I/O bit port that is configurable as a host-driven input/output port or as a battery undervoltage status output (BKUP_FLTb) with an open-drain N-MOSFET that is asserted low only while (See Datasheet)", 11 GPI03 (io) "General Purpose I/O Pin. A logic-level I/O bit port that is configurable as a host-driven input/output port or as a calibration complete status output (CAL_COMPLETEb) with an open-drain N-MOSFET that is asserted low when (See Datasheet)", 12 SELA (in) "SMBus Address Selection Input. Selects the LTC4110 SMBus address to facilitate redundant backup systems when standard batteries are used. Connect to GND for 12h, VDD for 28h and the VREF pin for 20h. When a smart battery is (See Datasheet)", 13 ACPB (oc) "AC Present Status Digital Output. Open-Drain N-MOSFET output is asserted low when the main supply is present as detected by the DCDIV pin and internal DCIN UVLO.", 14 VDIS (in) "Battery Discharge Voltage Limit During Backup Program Input. Battery threshold voltage at which backup mode will terminate by turning off the isolation P-MOSFET with the BATID pin. Adjustable from external resistor string (See Datasheet)", 15 VCAL (in) "Battery Voltage Limit During Calibration Program Input. Battery threshold voltage at which calibration will terminate. Adjustable from external resistor string biased from VREF pin. For default threshold connect to GND pin.", 16 VCHG (in) "Battery Float Voltage Program Input. Trims the float voltage during charging. Programmed from external resistor string biased from VREF pin. Connect to GND for default float voltage.", 17 VREF (io) "Voltage Reference Output and Timing Programming Input. Provides a typical virtual reference of 1.220V (VREF) for an external resistor divider tied between this pin and GND that programs the VCHG, VCAL and VDIS pin functions. (See Datasheet)", 18 TIMER (in) "Charge Timing Input. A capacitor connected between TIMER and GND along with the resistance connected from VREF to GND programs the charge time intervals.", 19 TYPE (in) "Refer to Table 8.", 20 THA (in) "Safety Signal Force/Sense Pin to Smart Battery and Force Pin to Lead Acid Battery Thermistor. See description of operation for more detail. The maximum allowed combined capacitance on THA, THB and Safety Signal is 1nF. For (See Datasheet)", 21 THB (in) "Safety Signal Force/Sense Pin to Smart Battery and Sense Pin to Lead Acid Battery Thermistor. See description of operation for more detail. The maximum allowed combined capacitance on THA, THB and Safety Signal is 1nF.", 22 IPCC (in) "Battery Preconditioning Charge Current Program Input. Programs the battery current during preconditioning or wakeup charging. Programmed from external resistor to GND.", 23 ICAL (in) "Battery Discharge Current During Calibration Program Input. Programs the constant discharge current at the battery during calibration. Programmed from external resistor to GND.", 24 ICHG (in) "Battery Current During Charge Program Input. Programs the battery current while constant-current bulk charging. Programmed from external resistor to GND.", 25 ITH "Control Signal of the Current Mode PWM. AC compensates control loop. Higher ITH voltage corresponds to higher charging current.", 26 CSP (in) "Current Sense Positive Input. This pin and the CSN pin measure voltage across the external current sense resistor to control battery current during charging and calibration.", 27 CSN (in) "Current Sense Negative Input. This pin and the CSP pin measure voltage across the external current sense resistor to control battery current during charging and calibration.", 28 SGND (power) "Signal Ground Reference Input. This pin should be Kelvin connected to the flyback current sense resistor and to the battery return.", 29 ISENSE (in) "Current Sense Input. Senses current in the flyback transformer by monitoring voltage across the external current sense resistor. This pin should be Kelvinconnected to the resistor.", 30 SELC (in) "Refer to Table 8.", 31 BAT (in) "Battery Voltage Sense Input. This pin is used to monitor the battery and control charging voltage through an internal resistor divider connected to this pin that is disconnected in shutdown mode. Also provides a control (See Datasheet)", 32 DCHFET (out) "Drives the Gate of an External N-MOSFET. Used to drive energy into the battery side of the high efficiency switch mode converter during low loss calibration discharge of the battery. Provides synchronous rectification during (See Datasheet)", 33 CHGFET (out) "Drives the Gate of an External N-MOSFET. Used to drive energy into the supply side of the high efficiency switch mode converter during battery charging. Provides synchronous rectification during low loss calibration mode.", 34 VDD (power) "Bypass Capacitor Connection for Internal VDD Regulator. Bypass at pin with 100nF low ESR capacitor to GND.", 35 BATID (in) "Drives the Gate of the Battery P-MOSFET Ideal Diode. Controls low loss ideal diode between the battery and backup load when in backup mode. When not in backup mode, the P-MOSFET is turned off to prevent battery power from (See Datasheet)", 36 NC "No Connect.", 37 DCOUT (in) "System Power Output Voltage Monitor Input. Provides a control input for supply input ideal diode and battery ideal diode functions. Also supplies power to the IC. Bypass at pin with 100nF low ESR capacitor to GND.", 38 INID (out) "Drives the Gate of the Supply Input P-MOSFET Ideal Diode. Controls low loss ideal diode between the supply input and backup load when not in backup mode.", 39 EP (power) "Ground. The Exposed Pad must be soldered to the PCB."